# Altium footprint library USB.PcbLib: 2 footprints
Each footprint in its own frame and in the unit in brackets; x right, y up, seen from the top. Pads: shape width x height; smd on the part's side, far side on the other; paste and mask are expansions set on the pad; w line width, h text height; cw(c..) or ccw(c..) is an arc to the next point about the centre after c.
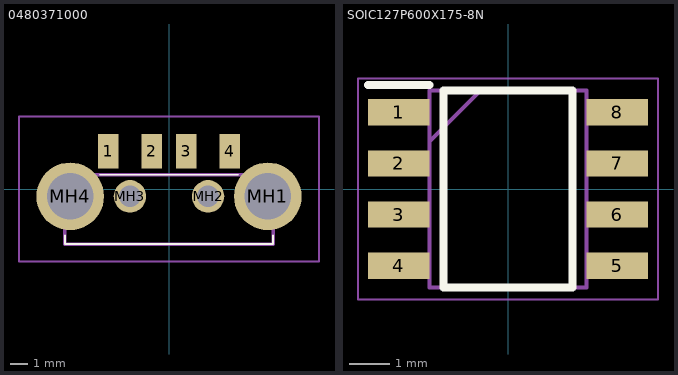
[diagram p0: the footprints below, top view; thin cyan lines are the x and y axes]

## 0480371000 [mm]
pads (8):
  rect 1.2x2 smd: 1(-3.5,2.175) 2(-1,2.175) 3(1,2.175) 4(3.5,2.175)
  round 3.9 hole 2.693: MH1(5.7,-0.425) MH4(-5.7,-0.425)
  round 1.875 hole 1.25: MH2(2.25,-0.425) MH3(-2.25,-0.425)
Top Overlay:
  lines w0.1: -6,-2.675 -6,-3.175 6,-3.175 6,-2.675 ; -4,0.825 4,0.825
Mechanical 13:
  lines w0.2: -6,-3.175 -6,0.825 6,0.825 6,-3.175 -6,-3.175
Mechanical 15:
  lines w0.1: -8.65,-4.175 -8.65,4.175 8.65,4.175 8.65,-4.175 -8.65,-4.175

## SOIC127P600X175-8N [mm]
pads (8):
  rect 1.525x0.65 smd: 1(-2.712,1.905) 2(-2.712,0.635) 3(-2.712,-0.635) 4(-2.712,-1.905) 5(2.712,-1.905) 6(2.712,-0.635) 7(2.712,0.635) 8(2.712,1.905)
Top Overlay:
  lines w0.2: -3.475,2.58 -1.95,2.58 ; -1.6,-2.45 1.6,-2.45 1.6,2.45 -1.6,2.45 -1.6,-2.45
Mechanical 13:
  lines w0.1: -1.95,1.18 -0.68,2.45 ; -1.95,-2.45 1.95,-2.45 1.95,2.45 -1.95,2.45 -1.95,-2.45
Mechanical 15:
  lines w0.05: -3.725,-2.75 3.725,-2.75 3.725,2.75 -3.725,2.75 -3.725,-2.75
3D body "NE555DR.stp": height 1.75, standoff 0, extent -3,-2.45 3,2.45